# Altium schematic symbol library TLVM13660RDLR.Schlib: 1 symbol
Pins are listed as number, name and electrical type; pins without a type are passive.

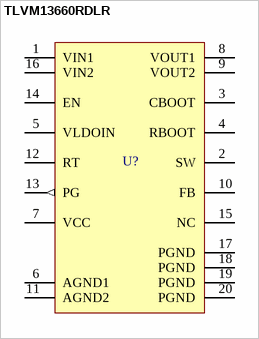
[diagram p0: symbol TLVM13660RDLR]

## TLVM13660RDLR
designator U?
Non-Isolated Power Module Buck DC DC Converter 1 Output, 1V ~ 6V, 6A, 3V - 36V
pins: 1 VIN1 (power), 2 SW, 3 CBOOT, 4 RBOOT, 5 VLDOIN, 6 AGND1 (power), 7 VCC, 8 VOUT1 (power), 9 VOUT2 (power), 10 FB, 11 AGND2 (power), 12 RT, 13 PG (out), 14 EN, 15 NC, 16 VIN2 (power), 17 PGND (power), 18 PGND (power), 19 PGND (power), 20 PGND (power)